# Altium footprint library Modules.PcbLib: 6 footprints
Each footprint in its own frame and in the unit in brackets; x right, y up, seen from the top. Pads: shape width x height; smd on the part's side, far side on the other; paste and mask are expansions set on the pad; w line width, h text height; cw(c..) or ccw(c..) is an arc to the next point about the centre after c.
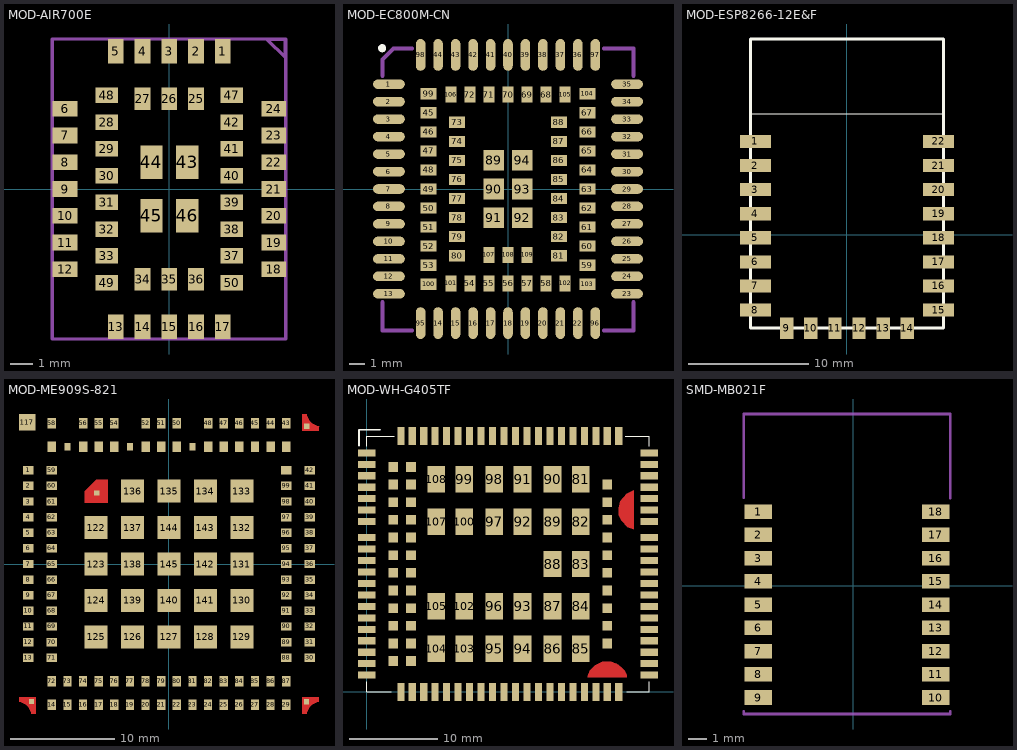
[diagram p0: the footprints below, top view; thin cyan lines are the x and y axes]

## MOD-AIR700E [mm]
height 2.4
pads (50):
  rect 0.7x1.1 smd mask+0.05: 1(2.4,6.175) 2(1.2,6.175) 3(0,6.175) 4(-1.2,6.175) 5(-2.4,6.175) 13(-2.4,-6.175) 14(-1.2,-6.175) 15(0,-6.175) 16(1.2,-6.175) 17(2.4,-6.175)
  rect 1.1x0.7 smd mask+0.05: 6(-4.675,3.6) 7(-4.675,2.4) 8(-4.675,1.2) 9(-4.675,0) 10(-4.675,-1.2) 11(-4.675,-2.4) 12(-4.675,-3.6) 18(4.675,-3.6) 19(4.675,-2.4) 20(4.675,-1.2) 21(4.675,0) 22(4.675,1.2) 23(4.675,2.4) 24(4.675,3.6)
  rect 0.7x1 smd mask+0.05: 25(1.2,4.05) 26(0,4.05) 27(-1.2,4.05) 34(-1.2,-4.05) 35(0,-4.05) 36(1.2,-4.05)
  rect 1x0.7 smd mask+0.05: 28(-2.8,3) 29(-2.8,1.8) 30(-2.8,0.6) 31(-2.8,-0.6) 32(-2.8,-1.8) 33(-2.8,-3) 37(2.8,-3) 38(2.8,-1.8) 39(2.8,-0.6) 40(2.8,0.6) 41(2.8,1.8) 42(2.8,3) 47(2.8,4.2) 48(-2.8,4.2) 49(-2.8,-4.2) 50(2.8,-4.2)
  rect 1x1.5 smd mask+0.05: 43(0.8,1.2) 44(-0.8,1.2) 45(-0.8,-1.2) 46(0.8,-1.2)
Mechanical 15:
  lines w0.15: -5.25,-6.725 -5.25,6.725 5.225,6.725 5.225,-6.725 -5.25,-6.725 ; 4.4,6.7 5.2,6.7 5.2,5.9 4.4,6.7
3D body "Air700E.STEP": height 2.6, standoff -0.02, extent -5.24,-6.71 5.27,6.7

## MOD-EC800M-CN [mm]
pads (109):
  oval 2x0.6 smd paste+0 mask+0.05: 1(-7.496,6.6) 2(-7.496,5.5) 3(-7.496,4.4) 4(-7.496,3.3) 5(-7.496,2.2) 6(-7.496,1.1) 7(-7.496,0) 8(-7.496,-1.1) 9(-7.496,-2.2) 10(-7.496,-3.3) 11(-7.496,-4.4) 12(-7.496,-5.5) 13(-7.496,-6.6) 23(7.496,-6.6) 24(7.496,-5.5) 25(7.496,-4.4) 26(7.496,-3.3) 27(7.496,-2.2) 28(7.496,-1.1) 29(7.496,0) 30(7.496,1.1) 31(7.496,2.2) 32(7.496,3.3) 33(7.496,4.4) 34(7.496,5.5) 35(7.496,6.6)
  oval 0.6x2 smd paste+0 mask+0.05: 14(-4.4,-8.446) 15(-3.3,-8.446) 16(-2.2,-8.446) 17(-1.1,-8.446) 18(0,-8.446) 19(1.1,-8.446) 20(2.2,-8.446) 21(3.3,-8.446) 22(4.4,-8.446) 36(4.4,8.446) 37(3.3,8.446) 38(2.2,8.446) 39(1.1,8.446) 40(0,8.446) 41(-1.1,8.446) 42(-2.2,8.446) 43(-3.3,8.446) 44(-4.4,8.446) 95(-5.5,-8.446) 96(5.5,-8.446) 97(5.5,8.446) 98(-5.5,8.446)
  rect 1x0.7 smd paste+0 mask+0.05: 45(-5,4.8) 46(-5,3.6) 47(-5,2.4) 48(-5,1.2) 49(-5,0) 50(-5,-1.2) 51(-5,-2.4) 52(-5,-3.6) 53(-5,-4.8) 59(5,-4.8) 60(5,-3.6) 61(5,-2.4) 62(5,-1.2) 63(5,0) 64(5,1.2) 65(5,2.4) 66(5,3.6) 67(5,4.8) 73(-3.2,4.2) 74(-3.2,3) 75(-3.2,1.8) 76(-3.2,0.6) 77(-3.2,-0.6) 78(-3.2,-1.8) 79(-3.2,-3) 80(-3.2,-4.2) 81(3.2,-4.2) 82(3.2,-3) 83(3.2,-1.8) 84(3.2,-0.6) 85(3.2,0.6) 86(3.2,1.8) 87(3.2,3) 88(3.2,4.2) 99(-5,6) 100(-5,-6) 103(5,-6) 104(5,6)
  rect 0.7x1 smd paste+0 mask+0.05: 54(-2.4,-5.95) 55(-1.2,-5.95) 56(0,-5.95) 57(1.2,-5.95) 58(2.4,-5.95) 68(2.4,5.95) 69(1.2,5.95) 70(0,5.95) 71(-1.2,5.95) 72(-2.4,5.95) 101(-3.6,-5.95) 102(3.6,-5.95) 105(3.6,5.95) 106(-3.6,5.95) 107(-1.2,-4.15) 108(0,-4.15) 109(1.2,-4.15)
  rect 1.3x1.3 smd paste+0 mask+0.05: 89(-0.9,1.8) 90(-0.9,0) 91(-0.9,-1.8) 92(0.9,-1.8) 93(0.9,0) 94(0.9,1.8)
Top Overlay:
  circle w0.254: c-7.925,8.865 r0.127
Mechanical 15:
  lines w0.254: -7.9,-7.131 -7.9,-8.9 -6.031,-8.9 ; -7.9,7.131 -7.9,8.158 -7.207,8.851 -6.859,8.851 -6.031,8.851 ; 6.031,-8.9 7.9,-8.9 7.9,-7.131 ; 6.031,8.851 7.9,8.851 7.9,7.131
3D body "Qns_V1.0.STEP": height 2.6, standoff 0.2, extent -7.9,-8.849 7.9,8.851

## MOD-ESP8266-12E&F [mm] "ESP8266-12F"
height 2.8
pads (22):
  rect 2.6x1.1 smd: 1(-7.6,7.75) 2(-7.6,5.75) 3(-7.6,3.75) 4(-7.6,1.75) 5(-7.6,-0.25) 6(-7.6,-2.25) 7(-7.6,-4.25) 8(-7.6,-6.25) 15(7.6,-6.25) 16(7.6,-4.25) 17(7.6,-2.25) 18(7.6,-0.25) 19(7.6,1.75) 20(7.6,3.75) 21(7.6,5.75) 22(7.6,7.75)
  rect 1.1x1.8 smd: 9(-5,-7.75) 10(-3,-7.75) 11(-1,-7.75) 12(1,-7.75) 13(3,-7.75) 14(5,-7.75)
Top Overlay:
  lines w0.1: -8,10.05 8,10.05
  lines w0.254: -8,-7.75 -8,16.25 8,16.25 8,-7.75 -8,-7.75
3D body "User Library-EPS8266 ESP-12E-1.step": height 2.65, standoff -0.04, extent -8,-7.755 8.01,16.25

## MOD-ME909S-821 [mm] "HUAWEI-ME909S-821AP V2"
pads (142):
  rect 1x0.8 smd: 1(-13.5,9) 2(-13.5,7.5) 3(-13.5,6) 4(-13.5,4.5) 5(-13.5,3) 6(-13.5,1.5) 7(-13.5,0) 8(-13.5,-1.5) 9(-13.5,-3) 10(-13.5,-4.5) 11(-13.5,-6) 12(-13.5,-7.5) 13(-13.5,-9) 30(13.5,-9) 31(13.5,-7.5) 32(13.5,-6) 33(13.5,-4.5) 34(13.5,-3) 35(13.5,-1.5) 36(13.5,0) 37(13.5,1.5) 38(13.5,3) 39(13.5,4.5) 40(13.5,6) 41(13.5,7.5) 42(13.5,9) 59(-11.25,9) 60(-11.25,7.5) 61(-11.25,6) 62(-11.25,4.5) 63(-11.25,3) 64(-11.25,1.5) 65(-11.25,0) 66(-11.25,-1.5) 67(-11.25,-3) 68(-11.25,-4.5) 69(-11.25,-6) 70(-11.25,-7.5) 71(-11.25,-9) 88(11.25,-9) 89(11.25,-7.5) 90(11.25,-6) 91(11.25,-4.5) 92(11.25,-3) 93(11.25,-1.5) 94(11.25,0) 95(11.25,1.5) 96(11.25,3) 97(11.25,4.5) 98(11.25,6) 99(11.25,7.5) 100(11.25,9)
  rect 0.8x1 smd: 14(-11.25,-13.497) 15(-9.75,-13.497) 16(-8.25,-13.497) 17(-6.75,-13.497) 18(-5.25,-13.497) 19(-3.75,-13.497) 20(-2.25,-13.497) 21(-0.75,-13.497) 22(0.75,-13.497) 23(2.25,-13.497) 24(3.75,-13.497) 25(5.25,-13.497) 26(6.75,-13.497) 27(8.25,-13.497) 28(9.75,-13.497) 29(11.25,-13.497) 43(11.253,13.5) 44(9.753,13.5) 45(8.253,13.5) 46(6.753,13.5) 47(5.253,13.5) 48(3.753,13.5) 50(0.753,13.5) 51(-0.747,13.5) 52(-2.247,13.5) 54(-5.247,13.5) 55(-6.747,13.5) 56(-8.247,13.5) 58(-11.247,13.5) 72(-11.25,-11.247) 73(-9.75,-11.247) 74(-8.25,-11.247) 75(-6.75,-11.247) 76(-5.25,-11.247) 77(-3.75,-11.247) 78(-2.25,-11.247) 79(-0.75,-11.247) 80(0.75,-11.247) 81(2.25,-11.247) 82(3.75,-11.247) 83(5.25,-11.247) 84(6.75,-11.247) 85(8.25,-11.247) 86(9.75,-11.247) 87(11.25,-11.247) 101(11.253,11.25) 102(9.753,11.25) 103(8.253,11.25) 104(6.753,11.25) 105(5.253,11.25) 106(3.753,11.25) 108(0.753,11.25) 109(-0.747,11.25) 110(-2.247,11.25) 112(-5.247,11.25) 113(-6.747,11.25) 114(-8.247,11.25) 116(-11.247,11.25)
  rect 0.6x0.7 smd: 107(2.253,11.25) 111(-3.747,11.25) 115(-9.747,11.25)
  rect 1.6x1.6 smd: 117(-13.6,13.6)
  rect 0.5x0.5 smd: 118(-13.21,-13.21) 119(13.2,-13.23) 120(13.22,13.23) 121(-6.93,6.82)
  rect 2.2x2.2 smd: 122(-7,3.5) 123(-7,0) 124(-7,-3.5) 125(-7,-7) 126(-3.5,-7) 127(0,-7) 128(3.5,-7) 129(7,-7) 130(7,-3.5) 131(7,0) 132(7,3.5) 133(7,7) 134(3.5,7) 135(0,7) 136(-3.5,7) 137(-3.5,3.5) 138(-3.5,0) 139(-3.5,-3.5) 140(0,-3.5) 141(3.5,-3.5) 142(3.5,0) 143(3.5,3.5) 144(0,3.5) 145(0,0)
Top Layer:
  region: -8.1,5.9 -5.9,5.9 -5.9,8.1 -7,8.1 -8.1,7
  region: -12.8,-14.4 -13.21,-14.4 -13.214,-14.401 -13.235,-14.29 -13.302,-14.076 -13.402,-13.875 -13.534,-13.693 -13.693,-13.534 -13.875,-13.402 -14.076,-13.302 -14.29,-13.235 -14.401,-13.214 -14.4,-13.21 -14.4,-12.8 -12.8,-12.8
  region: 14.4,-12.8 14.4,-13.21 14.401,-13.214 14.29,-13.235 14.076,-13.302 13.875,-13.402 13.693,-13.534 13.534,-13.693 13.402,-13.875 13.302,-14.076 13.235,-14.29 13.214,-14.401 13.21,-14.4 12.8,-14.4 12.8,-12.8
  region: 12.8,14.4 13.21,14.4 13.214,14.401 13.235,14.29 13.302,14.076 13.402,13.875 13.534,13.693 13.693,13.534 13.875,13.402 14.076,13.302 14.29,13.235 14.401,13.214 14.4,13.21 14.4,12.8 12.8,12.8

## MOD-WH-G405TF [mm] "WH-G405TF"
pads (140):
  rect 2x0.8 smd: 1(0,27.1) 2(0,25.8) 3(0,24.5) 4(0,23.2) 5(0,21.9) 6(0,20.6) 7(0,19.3) 8(0,17.5) 9(0,16.2) 10(0,14.9) 11(0,13.6) 12(0,12.3) 13(0,11) 14(0,9.7) 15(0,8.4) 16(0,7.1) 17(0,5.8) 18(0,4.5) 19(0,3.2) 20(0,1.9) 41(32,1.9) 42(32,3.2) 43(32,4.5) 44(32,5.8) 45(32,7.1) 46(32,8.4) 47(32,9.7) 48(32,11) 49(32,12.3) 50(32,13.6) 51(32,14.9) 52(32,16.2) 53(32,17.5) 54(32,19.3) 55(32,20.6) 56(32,21.9) 57(32,23.2) 58(32,24.5) 59(32,25.8) 60(32,27.1)
  rect 0.8x2 smd: 21(3.85,0) 22(5.15,0) 23(6.45,0) 24(7.75,0) 25(9.05,0) 26(10.35,0) 27(11.65,0) 28(12.95,0) 29(14.25,0) 30(15.55,0) 31(16.85,0) 32(18.15,0) 33(19.45,0) 34(20.75,0) 35(22.05,0) 36(23.35,0) 37(24.65,0) 38(25.95,0) 39(27.25,0) 40(28.55,0) 61(28.55,29) 62(27.25,29) 63(25.95,29) 64(24.65,29) 65(23.35,29) 66(22.05,29) 67(20.75,29) 68(19.45,29) 69(18.15,29) 70(16.85,29) 71(15.55,29) 72(14.25,29) 73(12.95,29) 74(11.65,29) 75(10.35,29) 76(9.05,29) 77(7.75,29) 78(6.45,29) 79(5.15,29) 80(3.85,29)
  rect 2x3 smd: 81(24.25,24.1) 82(24.25,19.3) 83(24.25,14.5) 84(24.25,9.7) 85(24.25,4.9) 86(21.05,4.9) 87(21.05,9.7) 88(21.05,14.5) 89(21.05,19.3) 90(21.05,24.1) 91(17.65,24.1) 92(17.65,19.3) 93(17.65,9.7) 94(17.65,4.9) 95(14.45,4.9) 96(14.45,9.7) 97(14.45,19.3) 98(14.45,24.1) 99(11.05,24.1) 100(11.05,19.3) 102(11.05,9.7) 103(11.05,4.9) 104(7.85,4.9) 105(7.85,9.7) 107(7.85,19.3) 108(7.85,24.1)
  rect 1.1x1.1 smd: 109(5,25.5) 110(5,23.5) 111(5,21.5) 112(5,19.5) 113(5,17.5) 114(5,15.5) 115(5,13.5) 116(5,11.5) 117(5,9.5) 118(5,7.5) 119(5,5.5) 120(5,3.5) 121(3,3.5) 122(3,5.5) 123(3,7.5) 124(3,9.5) 125(3,11.5) 126(3,13.5) 127(3,15.5) 128(3,17.5) 129(3,19.5) 130(3,21.5) 131(3,23.5) 132(3,25.5) 133(27.25,5.5) 134(27.25,7.5) 135(27.25,9.5) 136(27.25,11.5) 137(27.25,13.5) 138(27.25,15.5) 139(27.25,17.5) 140(27.25,19.5) 141(27.25,21.5) 142(27.25,23.5)
Top Layer:
  pour cut-out: 30.26,22.86 29.464,22.479 28.702,21.59 28.575,20.828 28.575,20.066 28.829,19.431 29.591,18.669 30.26,18.415
  pour cut-out: 25.019,1.778 25.273,2.413 25.908,3.048 26.67,3.429 27.686,3.429 28.321,3.175 28.829,2.794 29.21,2.413 29.464,1.905 29.464,1.651 25.019,1.651
Top Overlay:
  lines w0.1: 0,1.17 0,0 2.75,0 ; 0,27.86 0,29 3.09,29 ; 29.3,29 32,29 32,27.85 ; 29.464,0 32,0 32,1.15
  lines w0.2: -0.889,27.94 -0.889,29.718 1.524,29.718

## SMD-MB021F [mm] "新一蓝牙模块"
pads (18):
  rect 1.5x0.8 smd mask+0.1: 1(-5.2,4.06) 2(-5.2,2.79) 3(-5.2,1.52) 4(-5.2,0.25) 5(-5.2,-1.02) 6(-5.2,-2.29) 7(-5.2,-3.56) 8(-5.2,-4.83) 9(-5.2,-6.1) 10(4.5,-6.1) 11(4.5,-4.83) 12(4.5,-3.56) 13(4.5,-2.29) 14(4.5,-1.02) 15(4.5,0.25) 16(4.5,1.52) 17(4.5,2.79) 18(4.5,4.06)
Mechanical 15:
  lines w0.152: -6,-6.85 -6,-7 5.3,-7 5.3,-6.86 ; -6,4.83 -6,9.4 5.3,9.4 5.3,4.79